# EAGLE library part ADIS16209 (library HyTechDevices - Copy)
ADIS16209 Inclinometer Datasheet <https://www.mouser.com/datasheet/2/609/ADIS16209_Anomaly-1503040.pdf>
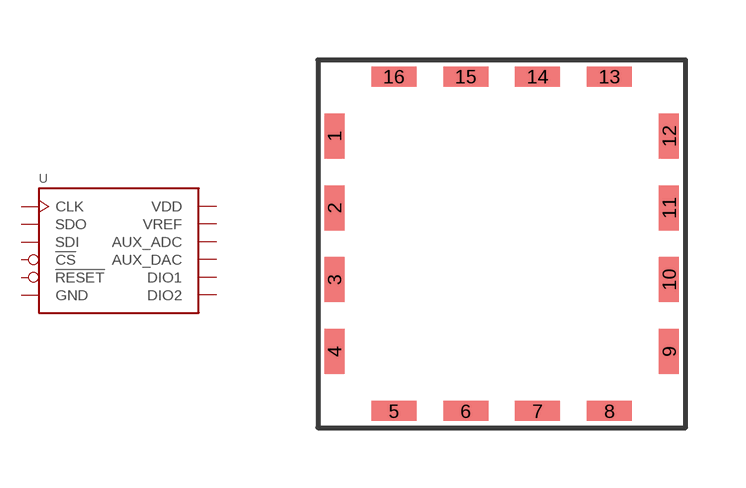
[diagram p15: symbol with the pads of CC-16-2; footprint CC-16-2]

Designator prefix -

## ADIS16209 (DKPN: ADIS16209CCCZ-ND; MOPN: 584-ADIS16209CCCZ)  [CC-16-2]
1  CLK  in
2  SDO  out
3  SDI  in
4  !CS  in
5  DIO1
6  DIO2
9  !RESET
12  AUX_DAC  in
13  VDD  pwr
14  AUX_ADC  in
15  VREF  out
16  GND  pwr

## Footprint CC-16-2 (pad centres in mm)
CC-16-2 16-Terminal Stacked Land Grid Array Datasheet <https://www.mouser.com/datasheet/2/609/ADIS16209-1517482.pdf>
smd 0.5 x 1.127: 1 -4.186,2.696; 2 -4.186,0.898; 3 -4.186,-0.898; 4 -4.186,-2.696; 9 4.186,-2.696; 10 4.186,-0.898; 11 4.186,0.898; 12 4.186,2.696
smd 1.127 x 0.5: 5 -2.696,-4.186; 6 -0.898,-4.186; 7 0.898,-4.186; 8 2.696,-4.186; 13 2.696,4.186; 14 0.898,4.186; 15 -0.898,4.186; 16 -2.696,4.186